# EAGLE library part 2ED020I12FA (library INFINEON)
Infineon 2ED020I12FA Dual Isolated IGBT Driver IC • Dual channel isolated IGBT Driver • For 600V/1200V IGBTs • 2 A rail-to-rail output • Vcesat-detection • Active Miller Clamp Datasheet <https://www.infineon.com/dgdl/Infineon-2ED020I12FA-DS-v03_01-EN.pdf?fileId=db3a30432e779412012e7b87d2b23878> Digikey <https://www.digikey.com/product-detail/en/infineon-technologies/2ED020I12FAXUMA2/2ED020I12FAXUMA2CT-ND/6564406>
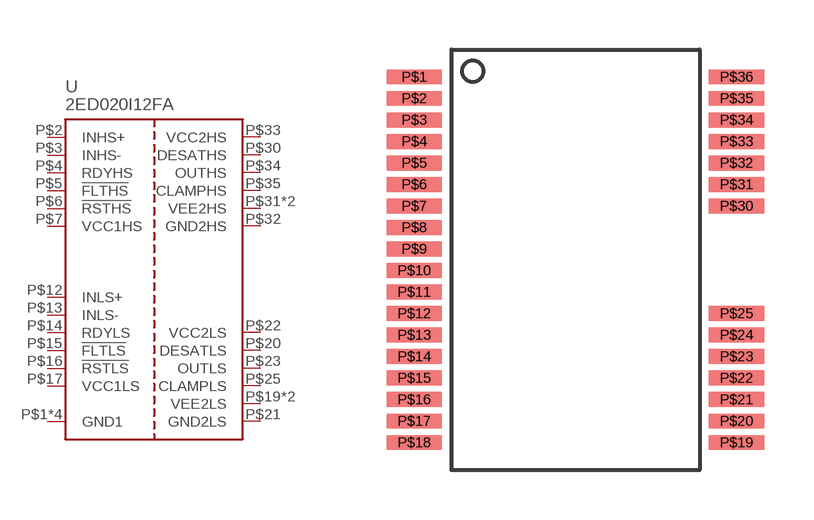
[diagram p0: symbol with the pads of 36-BSSOP; footprint 36-BSSOP]

Designator prefix -

## 2ED020I12FA  [36-BSSOP]
P$1  GND1
P$2  INHS+
P$3  INHS-
P$4  RDYHS
P$5  !FLTHS
P$6  !RSTHS
P$7  VCC1HS
P$8  GND1
P$11  GND1
P$12  INLS+
P$13  INLS-
P$14  RDYLS
P$15  !FLTLS
P$16  !RSTLS
P$17  VCC1LS
P$18  GND1
P$19  VEE2LS
P$20  DESATLS
P$21  GND2LS
P$22  VCC2LS
P$23  OUTLS
P$24  VEE2LS
P$25  CLAMPLS
P$30  DESATHS
P$31  VEE2HS
P$32  GND2HS
P$33  VCC2HS
P$34  OUTHS
P$35  CLAMPHS
P$36  VEE2HS

## Footprint 36-BSSOP (pad centres in mm)
36-BSSOP Footprint for 36-BSSOP
smd 1.67 x 0.45: P$1 -4.865,5.525; P$2 -4.865,4.875; P$3 -4.865,4.225; P$4 -4.865,3.575; P$5 -4.865,2.925; P$6 -4.865,2.275; P$7 -4.865,1.625; P$8 -4.865,0.975; P$9 -4.865,0.325; P$10 -4.865,-0.325; P$11 -4.865,-0.975; P$12 -4.865,-1.625; P$13 -4.865,-2.275; P$14 -4.865,-2.925; P$15 -4.865,-3.575; P$16 -4.865,-4.225; P$17 -4.865,-4.875; P$18 -4.865,-5.525; P$19 4.865,-5.525; P$20 4.865,-4.875; P$21 4.865,-4.225; P$22 4.865,-3.575; P$23 4.865,-2.925; P$24 4.865,-2.275; P$25 4.865,-1.625; P$30 4.865,1.625; P$31 4.865,2.275; P$32 4.865,2.925; P$33 4.865,3.575; P$34 4.865,4.225; P$35 4.865,4.875; P$36 4.865,5.525